# EAGLE library part MODUL_TYPE_D (library isysbus_modulsystem)
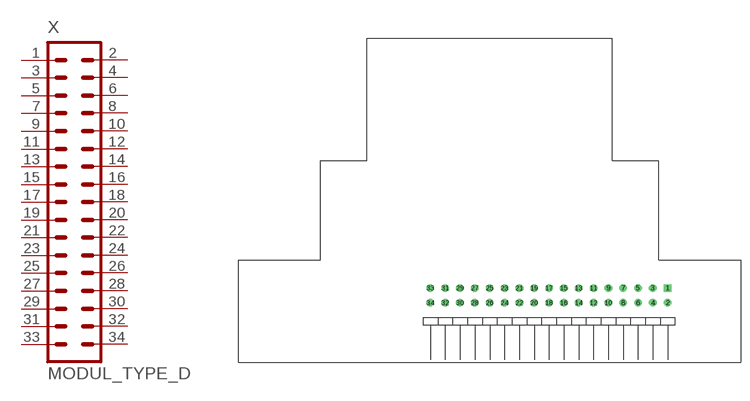
[diagram p2: symbol with the pads of MODUL_TYPE_D; footprint MODUL_TYPE_D]

Designator prefix X

## MODUL_TYPE_D  [MODUL_TYPE_D]
1  1  pas
2  2  pas
3  3  pas
4  4  pas
5  5  pas
6  6  pas
7  7  pas
8  8  pas
9  9  pas
10  10  pas
11  11  pas
12  12  pas
13  13  pas
14  14  pas
15  15  pas
16  16  pas
17  17  pas
18  18  pas
19  19  pas
20  20  pas
21  21  pas
22  22  pas
23  23  pas
24  24  pas
25  25  pas
26  26  pas
27  27  pas
28  28  pas
29  29  pas
30  30  pas
31  31  pas
32  32  pas
33  33  pas
34  34  pas

## Footprint MODUL_TYPE_D (pad centres in mm)
drill 0.8 square: 1 30.48,12.7
drill 0.8 round: 2 30.48,10.16; 3 27.94,12.7; 4 27.94,10.16; 5 25.4,12.7; 6 25.4,10.16; 7 22.86,12.7; 8 22.86,10.16; 9 20.32,12.7; 10 20.32,10.16; 11 17.78,12.7; 12 17.78,10.16; 13 15.24,12.7; 14 15.24,10.16; 15 12.7,12.7; 16 12.7,10.16; 17 10.16,12.7; 18 10.16,10.16; 19 7.62,12.7; 20 7.62,10.16; 21 5.08,12.7; 22 5.08,10.16; 23 2.54,12.7; 24 2.54,10.16; 25 0,12.7; 26 0,10.16; 27 -2.54,12.7; 28 -2.54,10.16; 29 -5.08,12.7; 30 -5.08,10.16; 31 -7.62,12.7; 32 -7.62,10.16; 33 -10.16,12.7; 34 -10.16,10.16